# Altium footprint library 1008LS-152XJLC.PcbLib: 1 footprints
Each footprint in its own frame and in the unit in brackets; x right, y up, seen from the top. Pads: shape width x height; smd on the part's side, far side on the other; paste and mask are expansions set on the pad; w line width, h text height; cw(c..) or ccw(c..) is an arc to the next point about the centre after c.
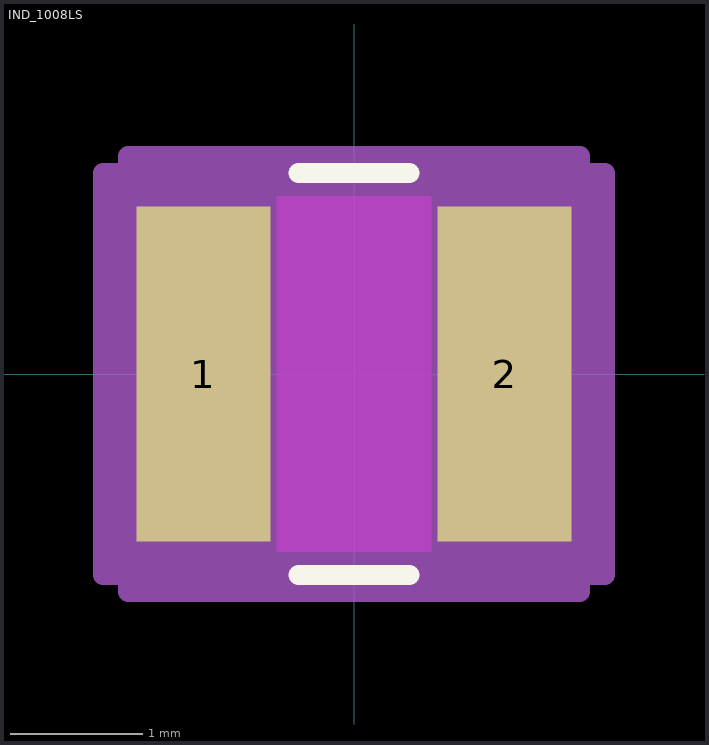
[diagram p0: the footprint, top view; thin cyan lines are the x and y axes]

## IND_1008LS [mil]
pads (2):
  rect 40x100 smd paste+0 mask+0: 1(-45,0) 2(45,0)
Top Layer keep-out:
  region: -23,-53 -23,53 23,53 23,-53
Top Overlay:
  lines w6: -16.54,-60 16.54,-60 ; -16.54,60 16.54,60
Mechanical 13:
  circle w0: c-54.5,0 r0
  lines w1: -57.5,-55 57.5,-55 57.5,55 -57.5,55 -57.5,-55
Mechanical 15:
  region: -67.5,-60 -75,-60 -75,60 -67.5,60 -67.5,65 67.5,65 67.5,60 75,60 75,-60 67.5,-60 67.5,-65 -67.5,-65
  lines w6: -75,-60 -75,60 -67.5,60 -67.5,65 67.5,65 67.5,60 75,60 75,-60 67.5,-60 67.5,-65 -67.5,-65 -67.5,-60 -75,-60
3D body "IND_1008LS.step": height 80, standoff 0, extent -57.48,-55.12 57.48,55.12